# EAGLE library part MCP4821 (library IC)
12-bit DACs with Internal VREF and SPI interface http://ww1.microchip.com/downloads/en/devicedoc/21953a.pdf
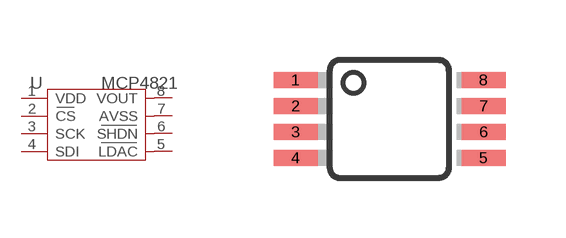
[diagram p16: symbol with the pads of MSOP8; footprint MSOP8]

Designator prefix U

## MCP4821-MSOP8  [MSOP8]
1  VDD  sup
2  CS  in
3  SCK  in
4  SDI  in
5  LDAC  in
6  SHDN  out
7  AVSS  sup
8  VOUT  out

## Footprint MSOP8 (pad centres in mm)
8M, 8-Lead, 0.118" Wide, Miniature Small Outline Package MSOP 8M-Package doc1097.pdf
smd 1.1 x 0.4: 1 -2.477,0.975; 2 -2.477,0.325; 3 -2.477,-0.325; 4 -2.477,-0.975; 5 2.223,-0.975; 6 2.223,-0.325; 7 2.223,0.325; 8 2.223,0.975